# Altium schematic symbol library SF-1206HHA800R-2.SchLib: 1 symbol
Pins are listed as number, name and electrical type; pins without a type are passive.

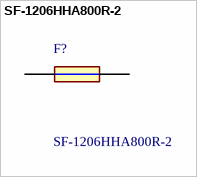
[diagram p0: symbol SF-1206HHA800R-2]

## SF-1206HHA800R-2
designator F?
1206 high-current met-foil. 8A Auto; Manufacturer_Name: Bourns; Geometry.Height: 1.2mm; Mouser Part Number: 652-SF-1206HHA800R-2; Mouser Price/Stock: https://www.mouser.co.uk/ProductDetail/Bourns/SF-1206HHA800R-2?qs=Imq1NPwxi77tr2%2FYGnM5Ig%3D%3D; Manufacturer_Part_Number: SF-1206HHA800R-2; Datasheet Link: https://www.bourns.com/docs/Product-Datasheets/SF-1206HHA-R.pdf
footprint SF1206HHA800R2
pins: 1, 2